# Altium footprint library IC-SMD.PCBLIB: 298 footprints (part 2 of 19)
Each footprint in its own frame and in the unit in brackets; x right, y up, seen from the top. Pads: shape width x height; smd on the part's side, far side on the other; paste and mask are expansions set on the pad; w line width, h text height; cw(c..) or ccw(c..) is an arc to the next point about the centre after c.
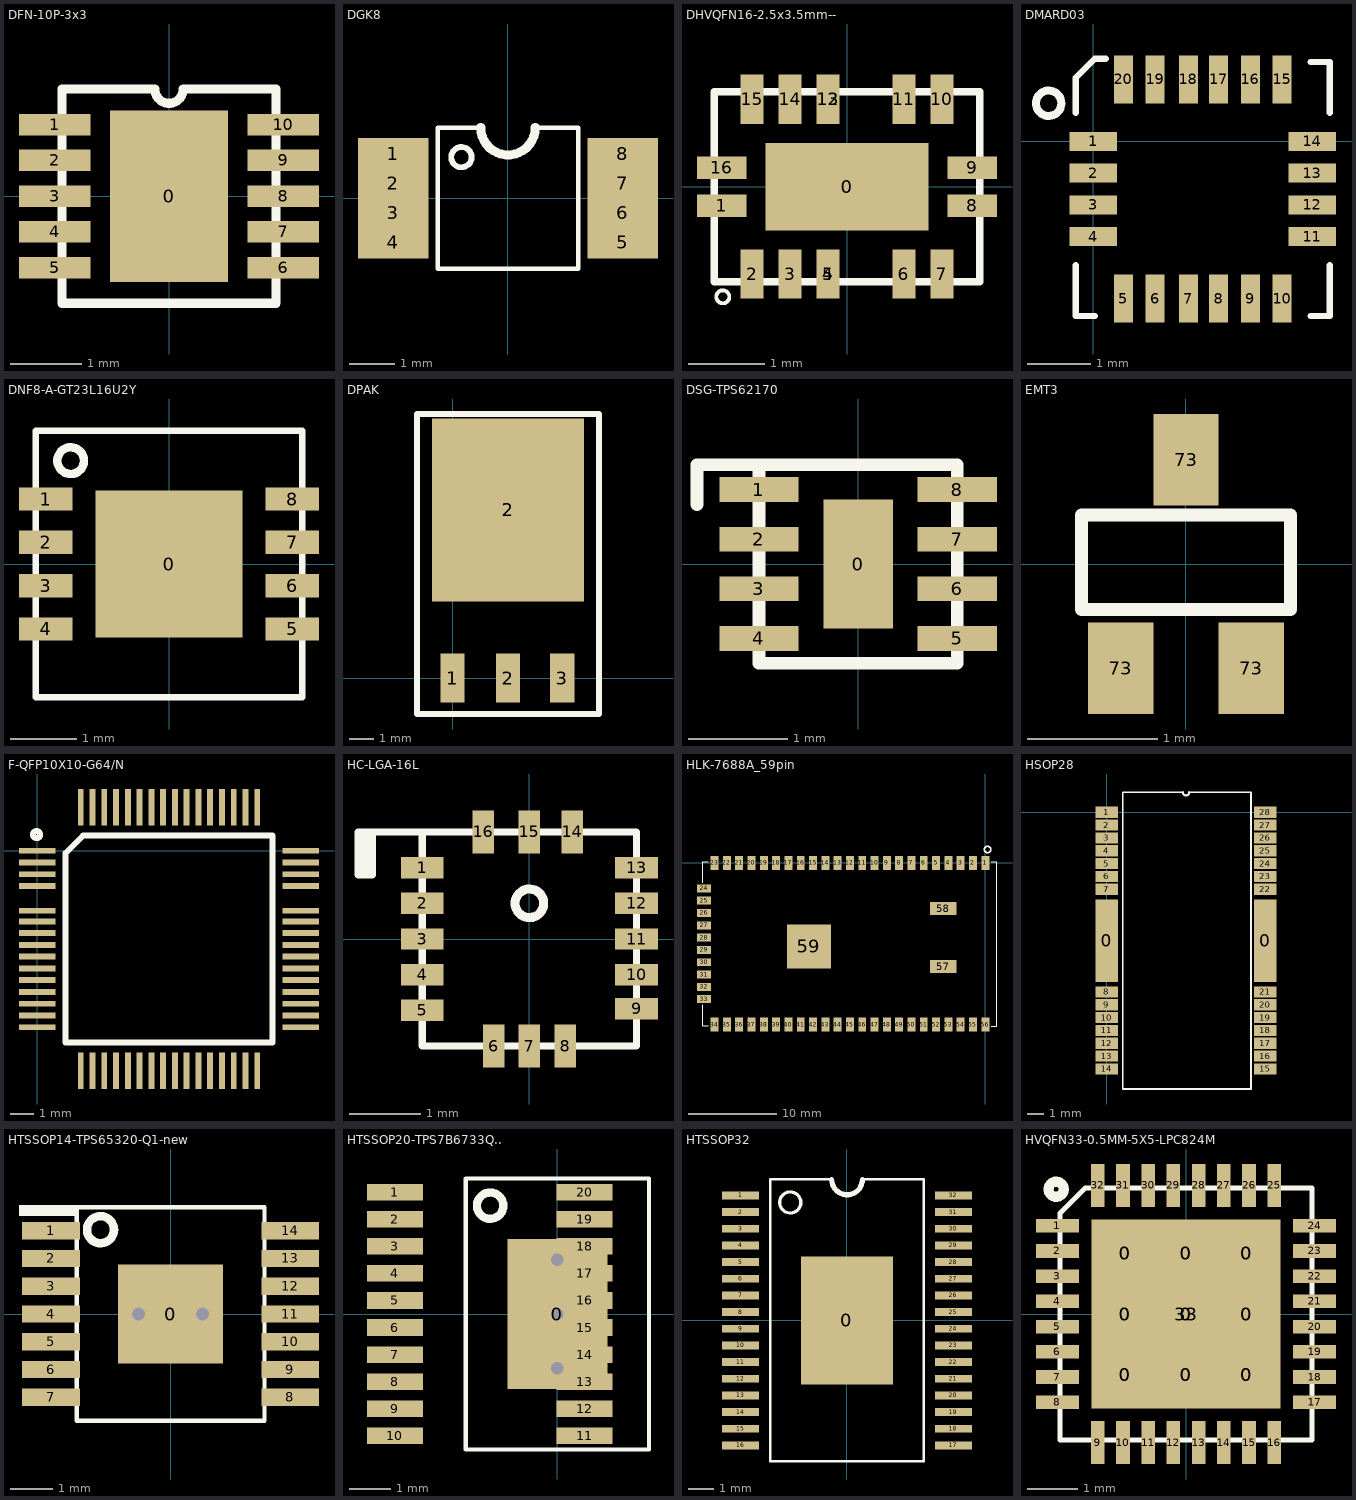
[diagram p1: the footprints below, top view; thin cyan lines are the x and y axes]

## DFN-10P-3x3 [mm] "DFN-10P-3x3"
pads (11):
  rect 1.65x2.4 smd: 0(0,0)
  rect 1x0.3 smd: 1(-1.6,1) 2(-1.6,0.5) 3(-1.6,0) 4(-1.6,-0.5) 5(-1.6,-1) 6(1.6,-1) 7(1.6,-0.5) 8(1.6,0) 9(1.6,0.5) 10(1.6,1)
TopOverlay:
  lines w0.127: -1.5,-1.35 -1.5,1.5 -0.2,1.5 ccw(c0,1.5) 0.2,1.5 1.5,1.5 1.5,-1.35 ; -1.5,-1.3 -1.5,-1.5 1.5,-1.5 1.5,-1.3

## DGK8 [mm]
pads (8):
  rect 1.55x0.7 smd: 1(-2.525,0.975) 2(-2.525,0.325) 3(-2.525,-0.325) 4(-2.525,-0.975) 5(2.525,-0.975) 6(2.525,-0.325) 7(2.525,0.325) 8(2.525,0.975)
TopOverlay:
  circle w0.127: c-1.024,0.9 r0.224
  lines w0.1: -0.6,1.55 -1.55,1.55 -1.55,-1.55 1.55,-1.55 1.55,1.55 0.6,1.55
  lines w0.2: -0.6,1.55 ccw(c0,1.55) 0.6,1.55

## DHVQFN16-2.5x3.5mm-- [mm] "DHVQFN16-2.5x3.5mm--"
pads (17):
  rect 2.15x1.15 smd: 0(0,0)
  rect 0.65x0.3 smd: 1(-1.65,-0.25) 8(1.65,-0.25) 9(1.65,0.25) 16(-1.65,0.25)
  rect 0.3x0.65 smd: 2(-1.25,-1.15) 3(-0.75,-1.15) 4(-0.25,-1.15) 5(-0.25,-1.15) 6(0.75,-1.15) 7(1.25,-1.15) 10(1.25,1.15) 11(0.75,1.15) 12(-0.25,1.15) 13(-0.25,1.15) 14(-0.75,1.15) 15(-1.25,1.15)
TopOverlay:
  circle w0.05: c-1.636,-1.45 r0.086
  lines w0.1: -1.75,-1.25 -1.75,1.25 1.75,1.25 1.75,-1.25 -1.75,-1.25

## DMARD03 [mm]
pads (20):
  rect 0.75x0.3 smd: 1(0,0) 2(0,-0.5) 3(0,-1) 4(0,-1.5) 11(3.45,-1.5) 12(3.45,-1) 13(3.45,-0.5) 14(3.45,0)
  rect 0.3x0.75 smd: 5(0.475,-2.475) 6(0.975,-2.475) 7(1.5,-2.475) 8(1.975,-2.475) 9(2.475,-2.475) 10(2.975,-2.475) 15(2.975,0.975) 16(2.475,0.975) 17(1.975,0.975) 18(1.5,0.975) 19(0.975,0.975) 20(0.475,0.975)
TopOverlay:
  circle w0.127: c-0.7,0.6 r0.2
  lines w0.1: -0.275,-1.95 -0.275,-2.75 0.025,-2.75 ; -0.275,0.45 -0.275,1 0.025,1.3 0.2,1.3 ; 3.425,-2.75 3.725,-2.75 3.725,-1.95 ; 3.425,1.25 3.725,1.25 3.725,0.45

## DNF8-A-GT23L16U2Y [mm] "DNF8-A-GT23L16U2Y"
pads (9):
  rect 2.2x2.2 smd: 0(0,0)
  rect 0.8x0.35 smd: 1(-1.85,0.975) 2(-1.85,0.325) 3(-1.85,-0.325) 4(-1.85,-0.975) 5(1.85,-0.975) 6(1.85,-0.325) 7(1.85,0.325) 8(1.85,0.975)
TopOverlay:
  circle w0.127: c-1.475,1.55 r0.2
  lines w0.1: -2,-2 2,-2 2,2 -2,2 -2,-2

## DPAK [mil]
pads (4):
  rect 40x80 smd: 1(0,0) 2(91,0) 3(180,0)
  rect 250x300 smd: 2(91,275.59)
TopOverlay:
  lines w10: -58.61,-59.06 240.61,-59.06 240.61,433.07 -58.61,433.07 -58.61,-59.06

## DSG-TPS62170 [mm] "DSG-TPS62170"
pads (9):
  rect 0.7x1.3 smd: 0(0,0)
  rect 0.8x0.25 smd: 1(-1,0.75) 2(-1,0.25) 3(-1,-0.25) 4(-1,-0.75) 5(1,-0.75) 6(1,-0.25) 7(1,0.25) 8(1,0.75)
TopOverlay:
  lines w0.127: -1.625,0.6 -1.625,1 -1,1 ; -1,1 1,1 1,-1 -1,-1 -1,1

## EMT3 [mm]
pads (3):
  rect 0.5x0.7 smd: 73(-0.5,-0.8) 73(0,0.8) 73(0.5,-0.8)
TopOverlay:
  lines w0.1: -0.8,-0.35 0.8,-0.35 0.8,0.375 -0.8,0.375 -0.8,-0.35

## F-QFP10X10-G64/N [mm]
pads (64):
  rect 1.55x0.25 smd: 1(0,0) 2(0,-0.5) 3(0,-1) 4(0,-1.5) 5(0,-1.5) 6(0,-2.55) 7(0,-3) 8(0,-3.5) 9(0,-4) 10(0,-4.5) 11(0,-5) 12(0,-5.5) 13(0,-6) 14(0,-6.5) 15(0,-7) 16(0,-7.5) 33(11.2,-7.5) 34(11.2,-7) 35(11.2,-6.5) 36(11.2,-6) 37(11.2,-5.5) 38(11.2,-5) 39(11.2,-4.5) 40(11.2,-4) 41(11.2,-3.5) 42(11.2,-3) 43(11.2,-2.55) 44(11.2,-1.5) 45(11.2,-1.5) 46(11.2,-1) 47(11.2,-0.5) 48(11.2,0)
  rect 0.25x1.55 smd: 17(1.85,-9.35) 18(2.35,-9.35) 19(2.85,-9.35) 20(3.35,-9.35) 21(3.85,-9.35) 22(4.35,-9.35) 23(4.85,-9.35) 24(5.35,-9.35) 25(5.85,-9.35) 26(6.35,-9.35) 27(6.85,-9.35) 28(7.35,-9.35) 29(7.85,-9.35) 30(8.35,-9.35) 31(8.85,-9.35) 32(9.35,-9.35) 49(9.35,1.85) 50(8.85,1.85) 51(8.35,1.85) 52(7.85,1.85) 53(7.35,1.85) 54(6.85,1.85) 55(6.35,1.85) 56(5.85,1.85) 57(5.35,1.85) 58(4.85,1.85) 59(4.35,1.85) 60(3.85,1.85) 61(3.35,1.85) 62(2.85,1.85) 63(2.35,1.85) 64(1.85,1.85)
TopOverlay:
  circle w0.25: c-0.028,0.686 r0.15
  lines w0.25: 1.2,-0.1 1.2,-8.15 10,-8.15 10,0.65 1.95,0.65
  lines w0.254: 1.2,-0.1 1.95,0.65

## HC-LGA-16L [mm]
pads (16):
  rect 0.6x0.3 smd: 1(-1.5,1) 2(-1.5,0.5) 3(-1.5,0) 4(-1.5,-0.5) 5(-1.5,-1) 9(1.5,-0.975) 10(1.5,-0.5) 11(1.5,0) 12(1.5,0.5) 13(1.5,1)
  rect 0.3x0.6 smd: 6(-0.5,-1.5) 7(0,-1.5) 8(0.5,-1.5) 14(0.6,1.5) 15(0,1.5) 16(-0.645,1.5)
TopOverlay:
  circle w0.127: c0,0.5 r0.2
  rectangle: -2.4,0.9 -2.2,1.5
  lines w0.1: -2.2,1.5 -2.4,1.5 -2.4,0.9 -2.2,0.9 -2.2,1.5 ; -2.2,1.5 -1.5,1.5 ; -1.5,1.5 -1.5,-1.5 1.5,-1.5 1.5,1.5 -1.5,1.5

## HLK-7688A_59pin [mm] "HLK-7688A_59pin"
height 2.5
pads (59):
  rect 0.9x1.6 smd: 1(0,0) 2(-1.4,0) 3(-2.8,0) 4(-4.2,0) 5(-5.6,0) 6(-7,0) 7(-8.4,0) 8(-9.8,0) 9(-11.2,0) 10(-12.6,0) 11(-14,0) 12(-15.4,0) 13(-16.8,0) 14(-18.2,0) 15(-19.6,0) 16(-21,0) 17(-22.4,0) 18(-23.8,0) 19(-25.2,0) 20(-26.6,0) 21(-28,0) 22(-29.4,0) 23(-30.8,0) 34(-30.8,-18.4) 35(-29.4,-18.4) 36(-28,-18.4) 37(-26.6,-18.4) 38(-25.2,-18.4) 39(-23.8,-18.4) 40(-22.4,-18.4) 41(-21,-18.4) 42(-19.6,-18.4) 43(-18.2,-18.4) 44(-16.8,-18.4) 45(-15.4,-18.4) 46(-14,-18.4) 47(-12.6,-18.4) 48(-11.2,-18.4) 49(-9.8,-18.4) 50(-8.4,-18.4) 51(-7,-18.4) 52(-5.6,-18.4) 53(-4.2,-18.4) 54(-2.8,-18.4) 55(-1.4,-18.4) 56(0,-18.4)
  rect 1.6x0.9 smd: 24(-32,-2.9) 25(-32,-4.3) 26(-32,-5.7) 27(-32,-7.1) 28(-32,-8.5) 29(-32,-9.9) 30(-32,-11.3) 31(-32,-12.7) 32(-32,-14.1) 33(-32,-15.5)
  rect 3x1.5 smd: 57(-4.8,-11.8) 58(-4.8,-5.2)
  rect 5x5 smd: 59(-20.066,-9.5)
TopOverlay:
  circle w0.15: c0.254,1.524 r0.359
  lines w0.1: -32.131,-16.129 -32.131,-18.542 -31.496,-18.542 ; -32.131,-2.271 -32.131,0.142 -31.496,0.142 ; 0.696,-18.557 1.331,-18.557 1.331,0.142 0.696,0.142

## HSOP28 [mm]
pads (30):
  rect 1.4x5.15 smd: 0(0,-8) 0(9.9,-8)
  rect 1.4x0.7 smd: 1(0,0) 2(0,-0.8) 3(0,-1.6) 4(0,-2.4) 5(0,-3.2) 6(0,-4) 7(0,-4.8) 8(0,-11.2) 9(0,-12) 10(0,-12.8) 11(0,-13.6) 12(0,-14.4) 13(0,-15.2) 14(0,-16) 15(9.9,-16) 16(9.9,-15.2) 17(9.9,-14.4) 18(9.9,-13.6) 19(9.9,-12.8) 20(9.9,-12) 21(9.9,-11.2) 22(9.9,-4.8) 23(9.9,-4) 24(9.9,-3.2) 25(9.9,-2.4) 26(9.9,-1.6) 27(9.9,-0.8) 28(9.9,0)
TopOverlay:
  lines w0.1: 4.75,1.25 1,1.25 1,-17.25 9,-17.25 9,1.25 5.15,1.25
  lines w0.127: 4.75,1.25 ccw(c4.95,1.25) 5.15,1.25

## HTSSOP14-TPS65320-Q1-new [mm] "HTSSOP14-TPS65320-Q1-new"
pads (15):
  rect 2.46x2.31 smd: 0(0,0)
  rect 1.35x0.4 smd: 1(-2.8,1.95) 2(-2.8,1.3) 3(-2.8,0.65) 4(-2.8,0) 5(-2.8,-0.65) 6(-2.8,-1.3) 7(-2.8,-1.95) 8(2.8,-1.95) 9(2.8,-1.3) 10(2.8,-0.65) 11(2.8,0) 12(2.8,0.65) 13(2.8,1.3) 14(2.8,1.95)
via -0.75,0 diameter 0.5 hole 0.3
via 0.75,0 diameter 0.5 hole 0.3
TopOverlay:
  circle w0.2: c-1.641,1.975 r0.316
  rectangle: -3.55,2.3 -2.15,2.55
  lines w0.1: -2.2,-2.5 -2.2,2.5 2.2,2.5 2.2,-2.5 -2.2,-2.5

## HTSSOP20-TPS7B6733Q.. [mm] "HTSSOP20-TPS7B6733Q.."
pads (21):
  rect 2.4x3.6 smd: 0(0,0)
  rect 1.35x0.4 smd: 1(-3.9,2.925) 2(-3.9,2.275) 3(-3.9,1.625) 4(-3.9,0.975) 5(-3.9,0.325) 6(-3.9,-0.325) 7(-3.9,-0.975) 8(-3.9,-1.625) 9(-3.9,-2.275) 10(-3.9,-2.925) 11(0.65,-2.925) 12(0.65,-2.275) 13(0.65,-1.625) 14(0.65,-0.975) 15(0.65,-0.325) 16(0.65,0.325) 17(0.65,0.975) 18(0.65,1.625) 19(0.65,2.275) 20(0.65,2.925)
via 0,0 diameter 0.5 hole 0.3
via 0,-1.3 diameter 0.5 hole 0.3
via 0,1.3 diameter 0.5 hole 0.3
TopOverlay:
  circle w0.2: c-1.616,2.6 r0.316
  lines w0.1: -2.2,-3.25 2.2,-3.25 2.2,3.25 -2.2,3.25 -2.2,-3.25

## HTSSOP32 [mm]
pads (33):
  rect 3.6x5 smd: 0(0,0)
  rect 1.45x0.3 smd: 1(-4.15,4.875) 2(-4.15,4.225) 3(-4.15,3.575) 4(-4.15,2.925) 5(-4.15,2.275) 6(-4.15,1.625) 7(-4.15,0.975) 8(-4.15,0.325) 9(-4.15,-0.325) 10(-4.15,-0.975) 11(-4.15,-1.625) 12(-4.15,-2.275) 13(-4.15,-2.925) 14(-4.15,-3.575) 15(-4.15,-4.225) 16(-4.15,-4.875) 17(4.15,-4.875) 18(4.15,-4.225) 19(4.15,-3.575) 20(4.15,-2.925) 21(4.15,-2.275) 22(4.15,-1.625) 23(4.15,-0.975) 24(4.15,-0.325) 25(4.15,0.325) 26(4.15,0.975) 27(4.15,1.625) 28(4.15,2.275) 29(4.15,2.925) 30(4.15,3.575) 31(4.15,4.225) 32(4.15,4.875)
TopOverlay:
  circle w0.127: c-2.212,4.6 r0.412
  lines w0.1: -0.597,5.5 -3,5.5 -3,-5.5 3,-5.5 3,5.5 0.597,5.5
  lines w0.2: -0.597,5.5 ccw(c0.003,5.5) 0.603,5.5

## HVQFN33-0.5MM-5X5-LPC824M [mm] "HVQFN33-0.5MM-5X5-LPC824M"
pads (51):
  round 0.6 on Top Paste: 0(-1.2,-1.2) 0(-1.2,-1.2) 0(-1.2,0) 0(-1.2,0) 0(-1.2,1.2) 0(-1.2,1.2) 0(0,-1.2) 0(0,-1.2) 0(0,0) 0(0,0) 0(0,1.2) 0(0,1.2) 0(1.2,-1.2) 0(1.2,-1.2) 0(1.2,0) 0(1.2,0) 0(1.2,1.2) 0(1.2,1.2)
  rect 0.85x0.27 smd: 1(-2.55,1.75) 2(-2.55,1.25) 3(-2.55,0.75) 4(-2.55,0.25) 5(-2.55,-0.25) 6(-2.55,-0.75) 7(-2.55,-1.25) 8(-2.55,-1.75) 17(2.55,-1.75) 18(2.55,-1.25) 19(2.55,-0.75) 20(2.55,-0.25) 21(2.55,0.25) 22(2.55,0.75) 23(2.55,1.25) 24(2.55,1.75)
  rect 0.27x0.85 smd: 9(-1.75,-2.55) 10(-1.25,-2.55) 11(-0.75,-2.55) 12(-0.25,-2.55) 13(0.25,-2.55) 14(0.75,-2.55) 15(1.25,-2.55) 16(1.75,-2.55) 25(1.75,2.55) 26(1.25,2.55) 27(0.75,2.55) 28(0.25,2.55) 29(-0.25,2.55) 30(-0.75,2.55) 31(-1.25,2.55) 32(-1.75,2.55)
  rect 3.75x3.75 smd: 33(0,0)
TopOverlay:
  circle w0.2: c-2.575,2.475 r0.15
  lines w0.1: -2.5,-2.5 -2.5,2 -2,2.5 2.5,2.5 2.5,-2.5 -2.5,-2.5
TopSolder:
  rectangle: -1.925,-1.925 -0.9,1.925
  rectangle: 0.9,-1.925 1.925,1.925
  rectangle: -1.925,-1.925 1.925,-0.85
  rectangle: -1.6,-0.35 1.7,0.325
  rectangle: -1.925,0.875 1.925,1.925
  rectangle: -0.3,-1.65 0.3,1.675